# Altium footprint library 2100LL-560-H-RC.PcbLib: 1 footprints
Each footprint in its own frame and in the unit in brackets; x right, y up, seen from the top. Pads: shape width x height; smd on the part's side, far side on the other; paste and mask are expansions set on the pad; w line width, h text height; cw(c..) or ccw(c..) is an arc to the next point about the centre after c.
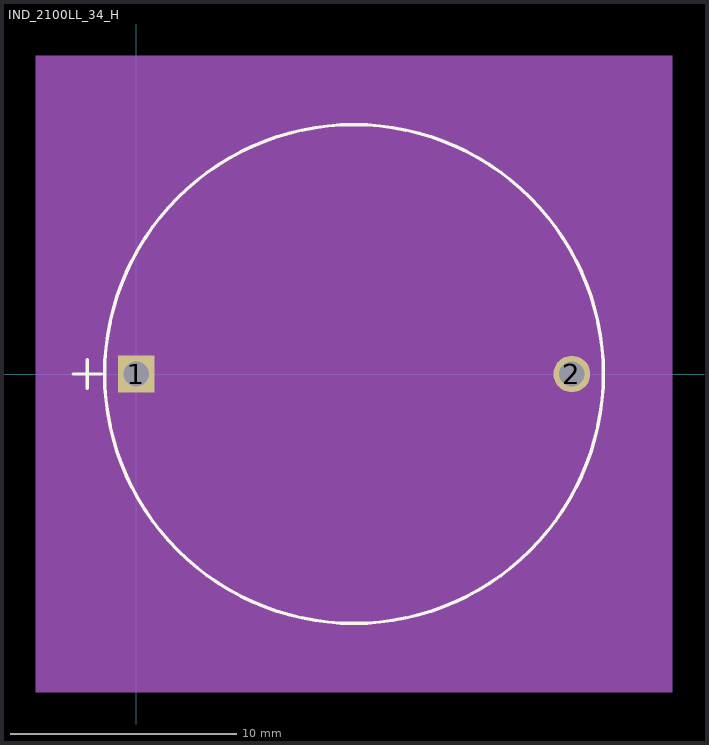
[diagram p0: the footprint, top view; thin cyan lines are the x and y axes]

## IND_2100LL_34_H [mil]
pads (2):
  rect 64x64 hole 44 mask+0: 1(0,0)
  round 64 hole 44 mask+0: 2(760,0)
Top Overlay:
  circle w6: c380,0 r435
  lines w6: -110,0 -60,0 ; -85,-25 -85,25
Mechanical 5:
  region: 935,-555 -175,-555 -175,555 935,555
Mechanical 13:
  circle w0: c380,0 r430
  lines w1: -110,0 -60,0 ; -85,-25 -85,25
Mechanical 15:
  region: -60,181.18 198.82,440 561.18,440 820,181.18 820,-181.18 561.18,-440 198.82,-440 -60,-181.18
  lines w1: -60,-181.18 198.82,-440 561.18,-440 820,-181.18 820,181.18 561.18,440 198.82,440 -60,181.18 -60,-181.18
3D body "IND_2100LL_34_H.step": height 410.63, standoff -550, extent -50.61,-429.87 810,429.87